# Altium schematic symbol library SCH - MCU - TI - TI MSPM0L222X LQFP-64 PM.SchLib: 1 symbol
Pins are listed as number, name and electrical type; pins without a type are passive.

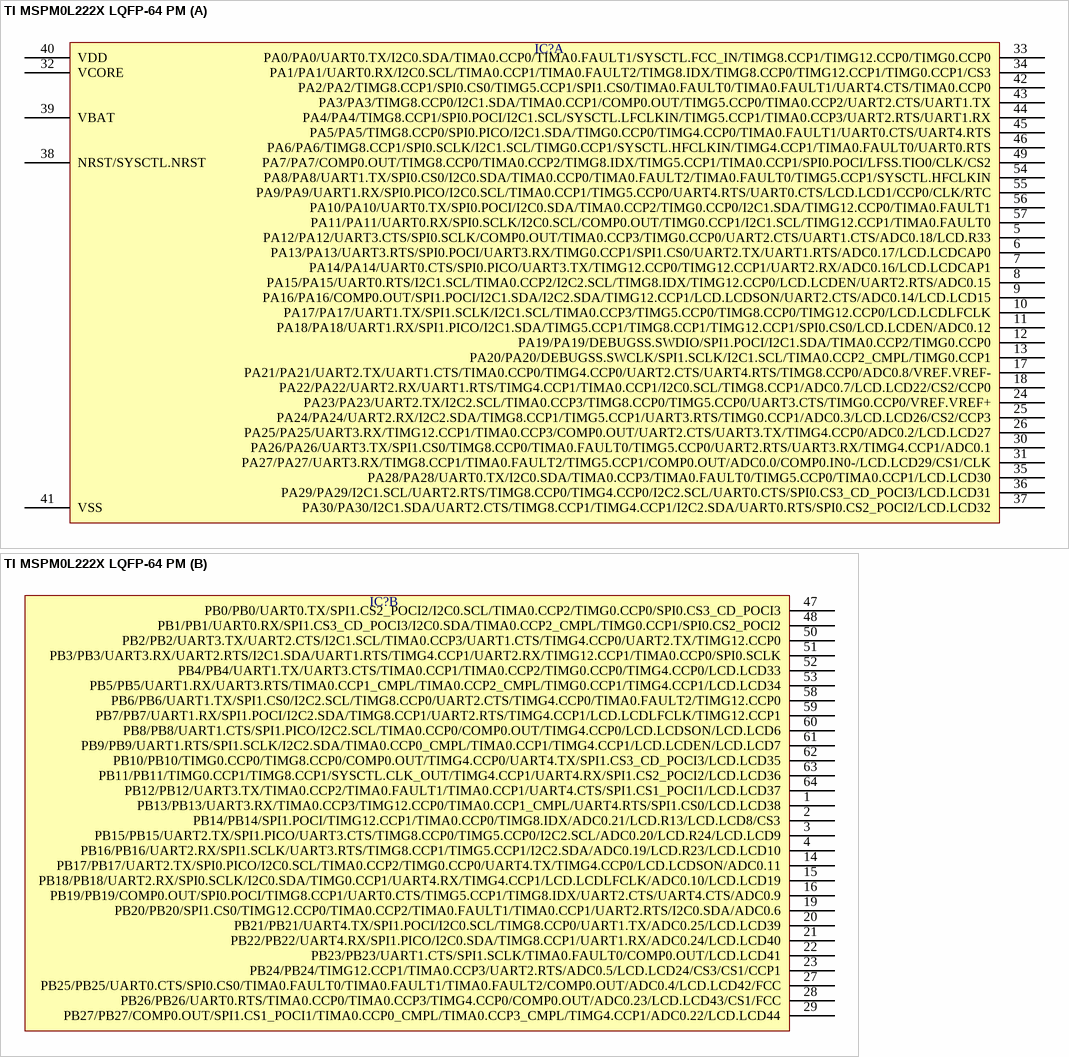
[diagram p0: symbol TI MSPM0L222X LQFP-64 PM]

## TI MSPM0L222X LQFP-64 PM
designator IC?  (value not drawn)
part A pins: 5 PA12/PA12/UART3.CTS/SPI0.SCLK/COMP0.OUT/TIMA0.CCP3/TIMG0.CCP0/UART2.CTS/UART1.CTS/ADC0.18/LCD.R33, 6 PA13/PA13/UART3.RTS/SPI0.POCI/UART3.RX/TIMG0.CCP1/SPI1.CS0/UART2.TX/UART1.RTS/ADC0.17/LCD.LCDCAP0, 7 PA14/PA14/UART0.CTS/SPI0.PICO/UART3.TX/TIMG12.CCP0/TIMG12.CCP1/UART2.RX/ADC0.16/LCD.LCDCAP1, 8 PA15/PA15/UART0.RTS/I2C1.SCL/TIMA0.CCP2/I2C2.SCL/TIMG8.IDX/TIMG12.CCP0/LCD.LCDEN/UART2.RTS/ADC0.15, 9 PA16/PA16/COMP0.OUT/SPI1.POCI/I2C1.SDA/I2C2.SDA/TIMG12.CCP1/LCD.LCDSON/UART2.CTS/ADC0.14/LCD.LCD15, 10 PA17/PA17/UART1.TX/SPI1.SCLK/I2C1.SCL/TIMA0.CCP3/TIMG5.CCP0/TIMG8.CCP0/TIMG12.CCP0/LCD.LCDLFCLK, 11 PA18/PA18/UART1.RX/SPI1.PICO/I2C1.SDA/TIMG5.CCP1/TIMG8.CCP1/TIMG12.CCP1/SPI0.CS0/LCD.LCDEN/ADC0.12, 12 PA19/PA19/DEBUGSS.SWDIO/SPI1.POCI/I2C1.SDA/TIMA0.CCP2/TIMG0.CCP0, 13 PA20/PA20/DEBUGSS.SWCLK/SPI1.SCLK/I2C1.SCL/TIMA0.CCP2_CMPL/TIMG0.CCP1, 17 PA21/PA21/UART2.TX/UART1.CTS/TIMA0.CCP0/TIMG4.CCP0/UART2.CTS/UART4.RTS/TIMG8.CCP0/ADC0.8/VREF.VREF-, 18 PA22/PA22/UART2.RX/UART1.RTS/TIMG4.CCP1/TIMA0.CCP1/I2C0.SCL/TIMG8.CCP1/ADC0.7/LCD.LCD22/CS2/CCP0, 24 PA23/PA23/UART2.TX/I2C2.SCL/TIMA0.CCP3/TIMG8.CCP0/TIMG5.CCP0/UART3.CTS/TIMG0.CCP0/VREF.VREF+, 25 PA24/PA24/UART2.RX/I2C2.SDA/TIMG8.CCP1/TIMG5.CCP1/UART3.RTS/TIMG0.CCP1/ADC0.3/LCD.LCD26/CS2/CCP3, 26 PA25/PA25/UART3.RX/TIMG12.CCP1/TIMA0.CCP3/COMP0.OUT/UART2.CTS/UART3.TX/TIMG4.CCP0/ADC0.2/LCD.LCD27, 30 PA26/PA26/UART3.TX/SPI1.CS0/TIMG8.CCP0/TIMA0.FAULT0/TIMG5.CCP0/UART2.RTS/UART3.RX/TIMG4.CCP1/ADC0.1, 31 PA27/PA27/UART3.RX/TIMG8.CCP1/TIMA0.FAULT2/TIMG5.CCP1/COMP0.OUT/ADC0.0/COMP0.IN0-/LCD.LCD29/CS1/CLK, 32 VCORE, 33 PA0/PA0/UART0.TX/I2C0.SDA/TIMA0.CCP0/TIMA0.FAULT1/SYSCTL.FCC_IN/TIMG8.CCP1/TIMG12.CCP0/TIMG0.CCP0, 34 PA1/PA1/UART0.RX/I2C0.SCL/TIMA0.CCP1/TIMA0.FAULT2/TIMG8.IDX/TIMG8.CCP0/TIMG12.CCP1/TIMG0.CCP1/CS3, 35 PA28/PA28/UART0.TX/I2C0.SDA/TIMA0.CCP3/TIMA0.FAULT0/TIMG5.CCP0/TIMA0.CCP1/LCD.LCD30, 36 PA29/PA29/I2C1.SCL/UART2.RTS/TIMG8.CCP0/TIMG4.CCP0/I2C2.SCL/UART0.CTS/SPI0.CS3_CD_POCI3/LCD.LCD31, 37 PA30/PA30/I2C1.SDA/UART2.CTS/TIMG8.CCP1/TIMG4.CCP1/I2C2.SDA/UART0.RTS/SPI0.CS2_POCI2/LCD.LCD32, 38 NRST/SYSCTL.NRST, 39 VBAT, 40 VDD, 41 VSS, 42 PA2/PA2/TIMG8.CCP1/SPI0.CS0/TIMG5.CCP1/SPI1.CS0/TIMA0.FAULT0/TIMA0.FAULT1/UART4.CTS/TIMA0.CCP0, 43 PA3/PA3/TIMG8.CCP0/I2C1.SDA/TIMA0.CCP1/COMP0.OUT/TIMG5.CCP0/TIMA0.CCP2/UART2.CTS/UART1.TX, 44 PA4/PA4/TIMG8.CCP1/SPI0.POCI/I2C1.SCL/SYSCTL.LFCLKIN/TIMG5.CCP1/TIMA0.CCP3/UART2.RTS/UART1.RX, 45 PA5/PA5/TIMG8.CCP0/SPI0.PICO/I2C1.SDA/TIMG0.CCP0/TIMG4.CCP0/TIMA0.FAULT1/UART0.CTS/UART4.RTS, 46 PA6/PA6/TIMG8.CCP1/SPI0.SCLK/I2C1.SCL/TIMG0.CCP1/SYSCTL.HFCLKIN/TIMG4.CCP1/TIMA0.FAULT0/UART0.RTS, 49 PA7/PA7/COMP0.OUT/TIMG8.CCP0/TIMA0.CCP2/TIMG8.IDX/TIMG5.CCP1/TIMA0.CCP1/SPI0.POCI/LFSS.TIO0/CLK/CS2, 54 PA8/PA8/UART1.TX/SPI0.CS0/I2C0.SDA/TIMA0.CCP0/TIMA0.FAULT2/TIMA0.FAULT0/TIMG5.CCP1/SYSCTL.HFCLKIN, 55 PA9/PA9/UART1.RX/SPI0.PICO/I2C0.SCL/TIMA0.CCP1/TIMG5.CCP0/UART4.RTS/UART0.CTS/LCD.LCD1/CCP0/CLK/RTC, 56 PA10/PA10/UART0.TX/SPI0.POCI/I2C0.SDA/TIMA0.CCP2/TIMG0.CCP0/I2C1.SDA/TIMG12.CCP0/TIMA0.FAULT1, 57 PA11/PA11/UART0.RX/SPI0.SCLK/I2C0.SCL/COMP0.OUT/TIMG0.CCP1/I2C1.SCL/TIMG12.CCP1/TIMA0.FAULT0
part B pins: 1 PB13/PB13/UART3.RX/TIMA0.CCP3/TIMG12.CCP0/TIMA0.CCP1_CMPL/UART4.RTS/SPI1.CS0/LCD.LCD38, 2 PB14/PB14/SPI1.POCI/TIMG12.CCP1/TIMA0.CCP0/TIMG8.IDX/ADC0.21/LCD.R13/LCD.LCD8/CS3, 3 PB15/PB15/UART2.TX/SPI1.PICO/UART3.CTS/TIMG8.CCP0/TIMG5.CCP0/I2C2.SCL/ADC0.20/LCD.R24/LCD.LCD9, 4 PB16/PB16/UART2.RX/SPI1.SCLK/UART3.RTS/TIMG8.CCP1/TIMG5.CCP1/I2C2.SDA/ADC0.19/LCD.R23/LCD.LCD10, 14 PB17/PB17/UART2.TX/SPI0.PICO/I2C0.SCL/TIMA0.CCP2/TIMG0.CCP0/UART4.TX/TIMG4.CCP0/LCD.LCDSON/ADC0.11, 15 PB18/PB18/UART2.RX/SPI0.SCLK/I2C0.SDA/TIMG0.CCP1/UART4.RX/TIMG4.CCP1/LCD.LCDLFCLK/ADC0.10/LCD.LCD19, 16 PB19/PB19/COMP0.OUT/SPI0.POCI/TIMG8.CCP1/UART0.CTS/TIMG5.CCP1/TIMG8.IDX/UART2.CTS/UART4.CTS/ADC0.9, 19 PB20/PB20/SPI1.CS0/TIMG12.CCP0/TIMA0.CCP2/TIMA0.FAULT1/TIMA0.CCP1/UART2.RTS/I2C0.SDA/ADC0.6, 20 PB21/PB21/UART4.TX/SPI1.POCI/I2C0.SCL/TIMG8.CCP0/UART1.TX/ADC0.25/LCD.LCD39, 21 PB22/PB22/UART4.RX/SPI1.PICO/I2C0.SDA/TIMG8.CCP1/UART1.RX/ADC0.24/LCD.LCD40, 22 PB23/PB23/UART1.CTS/SPI1.SCLK/TIMA0.FAULT0/COMP0.OUT/LCD.LCD41, 23 PB24/PB24/TIMG12.CCP1/TIMA0.CCP3/UART2.RTS/ADC0.5/LCD.LCD24/CS3/CS1/CCP1, 27 PB25/PB25/UART0.CTS/SPI0.CS0/TIMA0.FAULT0/TIMA0.FAULT1/TIMA0.FAULT2/COMP0.OUT/ADC0.4/LCD.LCD42/FCC, 28 PB26/PB26/UART0.RTS/TIMA0.CCP0/TIMA0.CCP3/TIMG4.CCP0/COMP0.OUT/ADC0.23/LCD.LCD43/CS1/FCC, 29 PB27/PB27/COMP0.OUT/SPI1.CS1_POCI1/TIMA0.CCP0_CMPL/TIMA0.CCP3_CMPL/TIMG4.CCP1/ADC0.22/LCD.LCD44, 47 PB0/PB0/UART0.TX/SPI1.CS2_POCI2/I2C0.SCL/TIMA0.CCP2/TIMG0.CCP0/SPI0.CS3_CD_POCI3, 48 PB1/PB1/UART0.RX/SPI1.CS3_CD_POCI3/I2C0.SDA/TIMA0.CCP2_CMPL/TIMG0.CCP1/SPI0.CS2_POCI2, 50 PB2/PB2/UART3.TX/UART2.CTS/I2C1.SCL/TIMA0.CCP3/UART1.CTS/TIMG4.CCP0/UART2.TX/TIMG12.CCP0, 51 PB3/PB3/UART3.RX/UART2.RTS/I2C1.SDA/UART1.RTS/TIMG4.CCP1/UART2.RX/TIMG12.CCP1/TIMA0.CCP0/SPI0.SCLK, 52 PB4/PB4/UART1.TX/UART3.CTS/TIMA0.CCP1/TIMA0.CCP2/TIMG0.CCP0/TIMG4.CCP0/LCD.LCD33, 53 PB5/PB5/UART1.RX/UART3.RTS/TIMA0.CCP1_CMPL/TIMA0.CCP2_CMPL/TIMG0.CCP1/TIMG4.CCP1/LCD.LCD34, 58 PB6/PB6/UART1.TX/SPI1.CS0/I2C2.SCL/TIMG8.CCP0/UART2.CTS/TIMG4.CCP0/TIMA0.FAULT2/TIMG12.CCP0, 59 PB7/PB7/UART1.RX/SPI1.POCI/I2C2.SDA/TIMG8.CCP1/UART2.RTS/TIMG4.CCP1/LCD.LCDLFCLK/TIMG12.CCP1, 60 PB8/PB8/UART1.CTS/SPI1.PICO/I2C2.SCL/TIMA0.CCP0/COMP0.OUT/TIMG4.CCP0/LCD.LCDSON/LCD.LCD6, 61 PB9/PB9/UART1.RTS/SPI1.SCLK/I2C2.SDA/TIMA0.CCP0_CMPL/TIMA0.CCP1/TIMG4.CCP1/LCD.LCDEN/LCD.LCD7, 62 PB10/PB10/TIMG0.CCP0/TIMG8.CCP0/COMP0.OUT/TIMG4.CCP0/UART4.TX/SPI1.CS3_CD_POCI3/LCD.LCD35, 63 PB11/PB11/TIMG0.CCP1/TIMG8.CCP1/SYSCTL.CLK_OUT/TIMG4.CCP1/UART4.RX/SPI1.CS2_POCI2/LCD.LCD36, 64 PB12/PB12/UART3.TX/TIMA0.CCP2/TIMA0.FAULT1/TIMA0.CCP1/UART4.CTS/SPI1.CS1_POCI1/LCD.LCD37